# Altium footprint library 2020-10-01_16-01-06.PcbLib: 3 footprints
Each footprint in its own frame and in the unit in brackets; x right, y up, seen from the top. Pads: shape width x height; smd on the part's side, far side on the other; paste and mask are expansions set on the pad; w line width, h text height; cw(c..) or ccw(c..) is an arc to the next point about the centre after c.
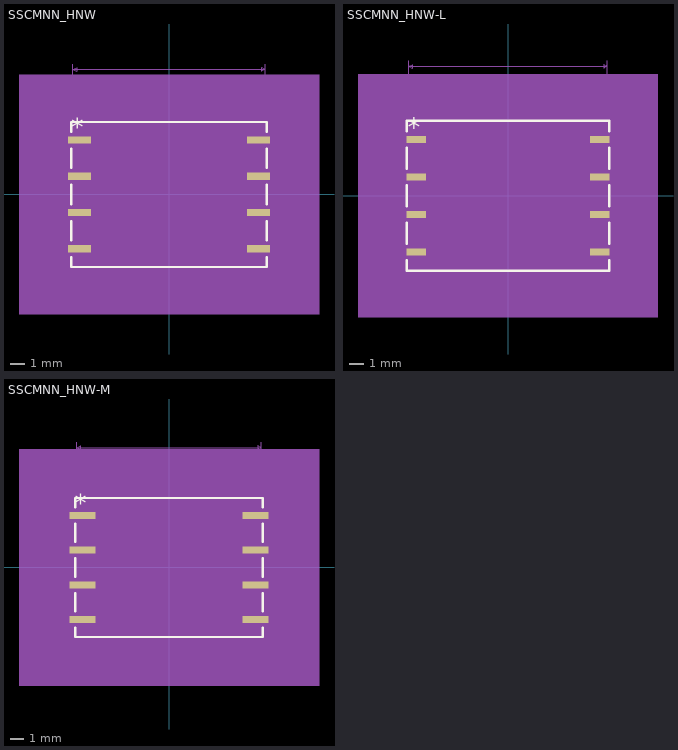
[diagram p0: the footprints below, top view; thin cyan lines are the x and y axes]

## SSCMNN_HNW [mil]
pads (8):
  rect 64x20 smd paste+0 mask+0: 1(-247,150) 2(-247,50) 3(-247,-50) 4(-247,-150) 5(247,-150) 6(247,-50) 7(247,50) 8(247,150)
Top Overlay:
  lines w6: -270,-173.1 -270,-200 270,-200 270,-173.1 ; -270,-126.9 -270,-73.1 ; -270,-26.9 -270,26.9 ; -270,73.1 -270,126.9 ; -270,173.1 -270,200 270,200 270,173.1 ; 270,-126.9 270,-73.1 ; 270,-26.9 270,26.9 ; 270,73.1 270,126.9
  text "*" at -269.5,160 h50
Mechanical 5:
  region: 414,-330 -414,-330 -414,330 414,330
Mechanical 7:
  lines w1: -362,50 -247,50 ; -362,150 -247,150 ; -347,0 -347,50 ; -347,200 -347,150 ; -315,-270 -265,-270 ; -265,-285 -265,0 ; -265,285 -265,0 ; -265,360 -265,0 ; -215,-285 -215,0 ; -165,-270 -215,-270 ; 0,-195 380,-195 ; 0,195 380,195 ; 265,285 265,0 265,360 ; -347,50 -352,40 -342,40 -347,50 ; -347,150 -352,160 -342,160 -347,150 ; -265,-270 -275,-265 -275,-275 -265,-270 ; -265,270 265,270 ; -265,270 -255,275 -255,265 -265,270 ; -265,345 265,345 ; -265,345 -255,350 -255,340 -265,345 ; -215,-270 -205,-265 -205,-275 -215,-270 ; 265,270 255,275 255,265 265,270 ; 265,345 255,350 255,340 265,345 ; 365,-195 365,195 ; 365,-195 360,-185 370,-185 365,-195 ; 365,195 360,185 370,185 365,195
  text "Default Padstyle: RX64Y20D0T" at -350,-395 h50
  text "Pin 1 Padstyle: RX64Y20D0T" at -325,-455 h50
  text "Alt 1 Padstyle: OX60Y90D30P" at -337.5,-635 h50
  text "Alt 2 Padstyle: OX90Y60D30P" at -337.5,-695 h50
  text "0.53in/13.462mm" at -93.75,290 h25
  text "0.53in/13.462mm" at -93.75,365 h25
  text "0.39in/9.906mm" at 385,-12.5 h25
  text "0.1in/2.54mm" at -517,87.5 h25
  text "0.05in/1.27mm" at -321.25,-315 h25
Mechanical 13:
  lines w0: -12,195 ccw(c0,195) 12,195
  lines w1: -265,-159 -265,-141 ; -265,-159 -265,-141 ; -265,-159 -265,-159 ; -265,-141 -265,-141 ; -265,-59 -265,-41 ; -265,-59 -265,-41 ; -265,-59 -265,-59 ; -265,-41 -265,-41 ; -265,41 -265,59 ; -265,41 -265,59 ; -265,41 -265,41 ; -265,59 -265,59 ; -265,141 -265,159 ; -265,141 -265,159 ; -265,141 -265,141 ; -265,159 -265,159 ; 265,-159 265,-141 ; 265,-159 265,-159 ; 265,-159 265,-141 ; 265,-141 265,-141 ; 265,-59 265,-41 ; 265,-59 265,-59 ; 265,-59 265,-41 ; 265,-41 265,-41 ; 265,41 265,59 ; 265,41 265,41 ; 265,41 265,59 ; 265,59 265,59 ; 265,141 265,159 ; 265,141 265,141 ; 265,141 265,159 ; 265,159 265,159 ; -265,-195 265,-195 265,195 -265,195 -265,-195
  text "*" at -239.5,120 h50
Mechanical 15:
  region: -275,-170 -299,-170 -299,170 -275,170 -275,205 275,205 275,170 299,170 299,-170 275,-170 275,-205 -275,-205
  lines w6: -299,-170 -299,170 -275,170 -275,205 275,205 275,170 299,170 299,-170 275,-170 275,-205 -275,-205 -275,-170 -299,-170
3D body: height 10, standoff 0, extent 0,0 10,10

## SSCMNN_HNW-L [mil]
pads (8):
  rect 52x18 smd paste+0 mask+0: 1(-245,150) 2(-245,50) 3(-245,-50) 4(-245,-150) 5(245,-150) 6(245,-50) 7(245,50) 8(245,150)
Top Overlay:
  lines w6: -270,-172.1 -270,-200 270,-200 270,-172.1 ; -270,-127.9 -270,-72.1 ; -270,-27.9 -270,27.9 ; -270,72.1 -270,127.9 ; -270,172.1 -270,200 270,200 270,172.1 ; 270,-127.9 270,-72.1 ; 270,-27.9 270,27.9 ; 270,72.1 270,127.9
  text "*" at -267.5,159 h50
Mechanical 5:
  region: 400,-324 -400,-324 -400,324 400,324
Mechanical 7:
  lines w1: -360,50 -245,50 ; -360,150 -245,150 ; -345,0 -345,50 ; -345,200 -345,150 ; -315,-270 -265,-270 ; -265,-285 -265,0 ; -265,285 -265,0 ; -265,360 -265,0 ; -215,-285 -215,0 ; -165,-270 -215,-270 ; 0,-195 380,-195 ; 0,195 380,195 ; 265,285 265,0 265,360 ; -345,50 -350,40 -340,40 -345,50 ; -345,150 -350,160 -340,160 -345,150 ; -265,-270 -275,-265 -275,-275 -265,-270 ; -265,270 265,270 ; -265,270 -255,275 -255,265 -265,270 ; -265,345 265,345 ; -265,345 -255,350 -255,340 -265,345 ; -215,-270 -205,-265 -205,-275 -215,-270 ; 265,270 255,275 255,265 265,270 ; 265,345 255,350 255,340 265,345 ; 365,-195 365,195 ; 365,-195 360,-185 370,-185 365,-195 ; 365,195 360,185 370,185 365,195
  text "Default Padstyle: RX52Y18D0T" at -350,-395 h50
  text "Pin 1 Padstyle: RX52Y18D0T" at -325,-455 h50
  text "Alt 1 Padstyle: OX60Y90D30P" at -337.5,-635 h50
  text "Alt 2 Padstyle: OX90Y60D30P" at -337.5,-695 h50
  text "0.53in/13.462mm" at -93.75,290 h25
  text "0.53in/13.462mm" at -93.75,365 h25
  text "0.39in/9.906mm" at 385,-12.5 h25
  text "0.1in/2.54mm" at -515,87.5 h25
  text "0.05in/1.27mm" at -321.25,-315 h25
Mechanical 13:
  lines w0: -12,195 ccw(c0,195) 12,195
  lines w1: -265,-159 -265,-141 ; -265,-159 -265,-141 ; -265,-159 -265,-159 ; -265,-141 -265,-141 ; -265,-59 -265,-41 ; -265,-59 -265,-41 ; -265,-59 -265,-59 ; -265,-41 -265,-41 ; -265,41 -265,59 ; -265,41 -265,59 ; -265,41 -265,41 ; -265,59 -265,59 ; -265,141 -265,159 ; -265,141 -265,159 ; -265,141 -265,141 ; -265,159 -265,159 ; 265,-159 265,-141 ; 265,-159 265,-159 ; 265,-159 265,-141 ; 265,-141 265,-141 ; 265,-59 265,-41 ; 265,-59 265,-59 ; 265,-59 265,-41 ; 265,-41 265,-41 ; 265,41 265,59 ; 265,41 265,41 ; 265,41 265,59 ; 265,59 265,59 ; 265,141 265,159 ; 265,141 265,141 ; 265,141 265,159 ; 265,159 265,159 ; -265,-195 265,-195 265,195 -265,195 -265,-195
  text "*" at -237.5,118 h50
Mechanical 15:
  region: -269,-158 -279,-158 -279,158 -269,158 -269,199 269,199 269,158 279,158 279,-158 269,-158 269,-199 -269,-199
  lines w6: -279,-158 -279,158 -269,158 -269,199 269,199 269,158 279,158 279,-158 269,-158 269,-199 -269,-199 -269,-158 -279,-158
3D body: height 10, standoff 0, extent 0,0 10,10

## SSCMNN_HNW-M [mil]
pads (8):
  rect 76x20 smd paste+0 mask+0: 1(-249,150) 2(-249,50) 3(-249,-50) 4(-249,-150) 5(249,-150) 6(249,-50) 7(249,50) 8(249,150)
Top Overlay:
  lines w6: -270,-173.1 -270,-200 270,-200 270,-173.1 ; -270,-126.9 -270,-73.1 ; -270,-26.9 -270,26.9 ; -270,73.1 -270,126.9 ; -270,173.1 -270,200 270,200 270,173.1 ; 270,-126.9 270,-73.1 ; 270,-26.9 270,26.9 ; 270,73.1 270,126.9
  text "*" at -271.5,160 h50
Mechanical 5:
  region: 432,-340 -432,-340 -432,340 432,340
Mechanical 7:
  lines w1: -364,50 -249,50 ; -364,150 -249,150 ; -349,0 -349,50 ; -349,200 -349,150 ; -315,-270 -265,-270 ; -265,-285 -265,0 ; -265,285 -265,0 ; -265,360 -265,0 ; -215,-285 -215,0 ; -165,-270 -215,-270 ; 0,-195 380,-195 ; 0,195 380,195 ; 265,285 265,0 265,360 ; -349,50 -354,40 -344,40 -349,50 ; -349,150 -354,160 -344,160 -349,150 ; -265,-270 -275,-265 -275,-275 -265,-270 ; -265,270 265,270 ; -265,270 -255,275 -255,265 -265,270 ; -265,345 265,345 ; -265,345 -255,350 -255,340 -265,345 ; -215,-270 -205,-265 -205,-275 -215,-270 ; 265,270 255,275 255,265 265,270 ; 265,345 255,350 255,340 265,345 ; 365,-195 365,195 ; 365,-195 360,-185 370,-185 365,-195 ; 365,195 360,185 370,185 365,195
  text "Default Padstyle: RX76Y20D0T" at -350,-395 h50
  text "Pin 1 Padstyle: RX76Y20D0T" at -325,-455 h50
  text "Alt 1 Padstyle: OX60Y90D30P" at -337.5,-635 h50
  text "Alt 2 Padstyle: OX90Y60D30P" at -337.5,-695 h50
  text "0.53in/13.462mm" at -93.75,290 h25
  text "0.53in/13.462mm" at -93.75,365 h25
  text "0.39in/9.906mm" at 385,-12.5 h25
  text "0.1in/2.54mm" at -519,87.5 h25
  text "0.05in/1.27mm" at -321.25,-315 h25
Mechanical 13:
  lines w0: -12,195 ccw(c0,195) 12,195
  lines w1: -265,-159 -265,-141 ; -265,-159 -265,-141 ; -265,-159 -265,-159 ; -265,-141 -265,-141 ; -265,-59 -265,-41 ; -265,-59 -265,-41 ; -265,-59 -265,-59 ; -265,-41 -265,-41 ; -265,41 -265,59 ; -265,41 -265,59 ; -265,41 -265,41 ; -265,59 -265,59 ; -265,141 -265,159 ; -265,141 -265,159 ; -265,141 -265,141 ; -265,159 -265,159 ; 265,-159 265,-141 ; 265,-159 265,-159 ; 265,-159 265,-141 ; 265,-141 265,-141 ; 265,-59 265,-41 ; 265,-59 265,-59 ; 265,-59 265,-41 ; 265,-41 265,-41 ; 265,41 265,59 ; 265,41 265,41 ; 265,41 265,59 ; 265,59 265,59 ; 265,141 265,159 ; 265,141 265,141 ; 265,141 265,159 ; 265,159 265,159 ; -265,-195 265,-195 265,195 -265,195 -265,-195
  text "*" at -241.5,120 h50
Mechanical 15:
  region: -285,-190 -327,-190 -327,190 -285,190 -285,215 285,215 285,190 327,190 327,-190 285,-190 285,-215 -285,-215
  lines w6: -327,-190 -327,190 -285,190 -285,215 285,215 285,190 327,190 327,-190 285,-190 285,-215 -285,-215 -285,-190 -327,-190
3D body: height 10, standoff 0, extent 0,0 10,10